# EAGLE library part MD-60S (library MD-60S)
3~9 Positions, Receptacle, Right Angle, Through Hole, Mini Circular DIN Connector Check prices <https://pricing.snapeda.com/parts/MD-60S/CUI%20Devices/view-part?ref=eda>
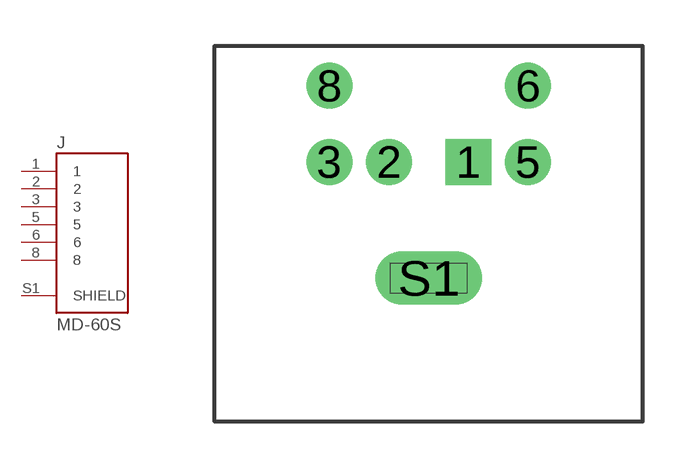
[diagram p0: symbol with the pads of CUI_MD-60S; footprint CUI_MD-60S]

Designator prefix J

## MD-60S (Availability: Good; CUI_purchase_URL: https://www.cuidevices.com/product/interconnect/connectors/din-connectors/md-s-series?utm_source=snapeda.com&utm_medium=referral&utm_campaign=snapedaBOM; Description: 3~9 Positions, Receptacle, Right Angle, Through Hole, Mini Circular DIN Connector; MF: CUI Devices; MP: MD-60S; Package: None; Price: None; Purchase-URL: https://pricing.snapeda.com/search/part/MD-60S/?ref=eda)  [CUI_MD-60S]
1  1  pas
2  2  pas
3  3  pas
5  5  pas
6  6  pas
8  8  pas
S1  SHIELD  pas

## Footprint CUI_MD-60S (pad centres in mm)
drill 1 square: 1 1.3,2.35
drill 1: 2 -1.3,2.35; 3 -3.25,2.35; 5 3.25,2.35; 6 3.25,4.85; 8 -3.25,4.85
drill 1 pad 1.75 long: S1 0,-1.45